# Altium schematic symbol library TPMV108M006R0020.SchLib: 1 symbol
Pins are listed as number, name and electrical type; pins without a type are passive.

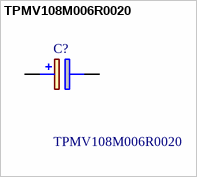
[diagram p0: symbol TPMV108M006R0020]

## TPMV108M006R0020
designator C?
Cap Tant Solid 1000uF 6V V CASE 20% (7.3 X 6.1 X 3.55mm) Inward L SMD 7361-38 0.02 Ohm 125C T/R; Manufacturer_Name: Kyocera AVX; Geometry.Height: 3.75mm; Mouser Part Number: 581-TPMV108M006R0020; Mouser Price/Stock: https://www.mouser.co.uk/ProductDetail/AVX/TPMV108M006R0020?qs=0Y9aZN%252BMVCXKhu8FbNCAZg%3D%3D; Manufacturer_Part_Number: TPMV108M006R0020; Datasheet Link: https://www.arrow.com/en/products/tpmv108m006r0020/avx
footprint CAPPM7362X375N
pins: 1 +, 2 -